# Altium schematic symbol library Varistor,350VAC,Thru.Schlib: 1 symbol
Pins are listed as number, name and electrical type; pins without a type are passive.

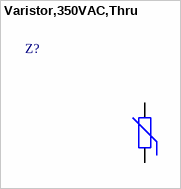
[diagram p0: symbol Varistor,350VAC,Thru]

## Varistor,350VAC,Thru
designator Z?
pins: 1, 2